# Altium footprint library 112JTDARR01.PcbLib: 1 footprints
Each footprint in its own frame and in the unit in brackets; x right, y up, seen from the top. Pads: shape width x height; smd on the part's side, far side on the other; paste and mask are expansions set on the pad; w line width, h text height; cw(c..) or ccw(c..) is an arc to the next point about the centre after c.
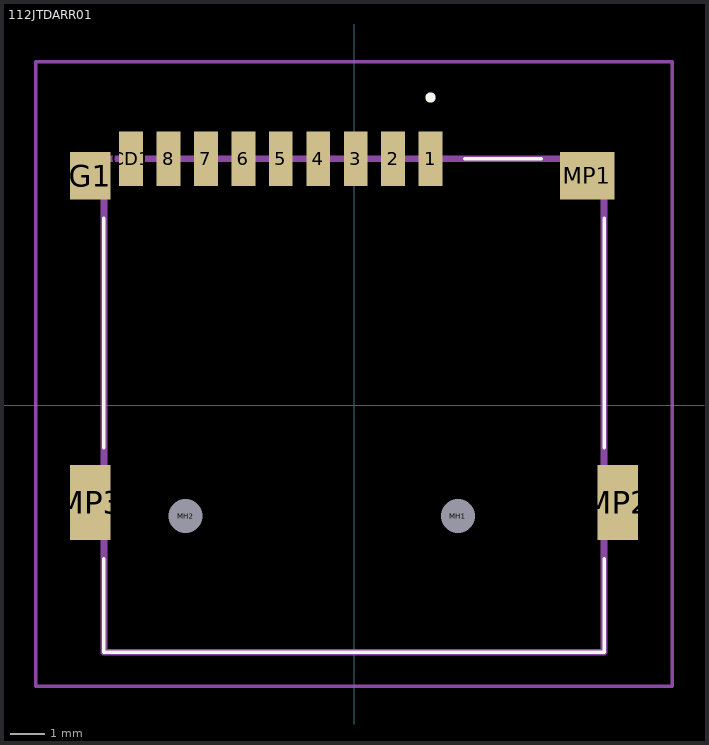
[diagram p0: the footprint, top view; thin cyan lines are the x and y axes]

## 112JTDARR01 [mm]
pads (15):
  rect 0.7x1.6 smd: 1(2.25,7.25) 2(1.15,7.25) 3(0.05,7.25) 4(-1.05,7.25) 5(-2.15,7.25) 6(-3.25,7.25) 7(-4.35,7.25) 8(-5.45,7.25) CD1(-6.55,7.25)
  rect 1.2x1.4 smd: G1(-7.75,6.75)
  round 0.5 hole 1 unplated: MH1(3.05,-3.25) MH2(-4.95,-3.25)
  rect 1.6x1.4 smd: MP1(6.85,6.75)
  rect 1.2x2.2 smd: MP2(7.75,-2.85) MP3(-7.75,-2.85)
Top Overlay:
  lines w0.1: -7.35,-7.25 7.35,-7.25 ; -7.35,-7.25 -7.35,-7.25 ; -7.35,-7.25 7.35,-7.25 ; -7.35,-7.25 -7.35,-7.25 ; -7.35,-7.25 -7.35,-4.5 ; -7.35,-7.25 -7.35,-4.5 ; -7.35,-4.5 -7.35,-4.5 ; -7.35,-1.25 -7.35,-1.25 ; -7.35,-1.25 -7.35,5.5 ; -7.35,-1.25 -7.35,5.5 ; -7.35,5.5 -7.35,5.5 ; 3.25,7.25 5.5,7.25 ; 3.25,7.25 5.5,7.25 ; 3.25,7.25 3.25,7.25 ; 5.5,7.25 5.5,7.25 ; 7.35,-7.25 7.35,-4.5 ; 7.35,-7.25 7.35,-7.25 ; 7.35,-7.25 7.35,-4.5 ; 7.35,-7.25 7.35,-7.25 ; 7.35,-4.5 7.35,-4.5 ; 7.35,-1.25 7.35,5.5 ; 7.35,-1.25 7.35,-1.25 ; 7.35,-1.25 7.35,5.5 ; 7.35,5.5 7.35,5.5
  lines w0.2: 2.25,9 cw(c2.25,9.05) 2.25,9.1 ; 2.25,9 2.25,9 ; 2.25,9 ccw(c2.25,9.05) 2.25,9.1 ; 2.25,9 cw(c2.25,9.05) 2.25,9.1 ; 2.25,9.1 2.25,9.1 ; 2.25,9.1 2.25,9.1
Mechanical 15:
  lines w0.2: -7.35,-7.25 7.35,-7.25 7.35,7.25 -7.35,7.25 -7.35,-7.25
Mechanical 20:
  lines w0.1: -9.35,-8.25 9.35,-8.25 9.35,10.1 -9.35,10.1 -9.35,-8.25